# Altium schematic symbol library 11.Other.SchLib: 69 symbols
Pins are listed as number, name and electrical type; pins without a type are passive.

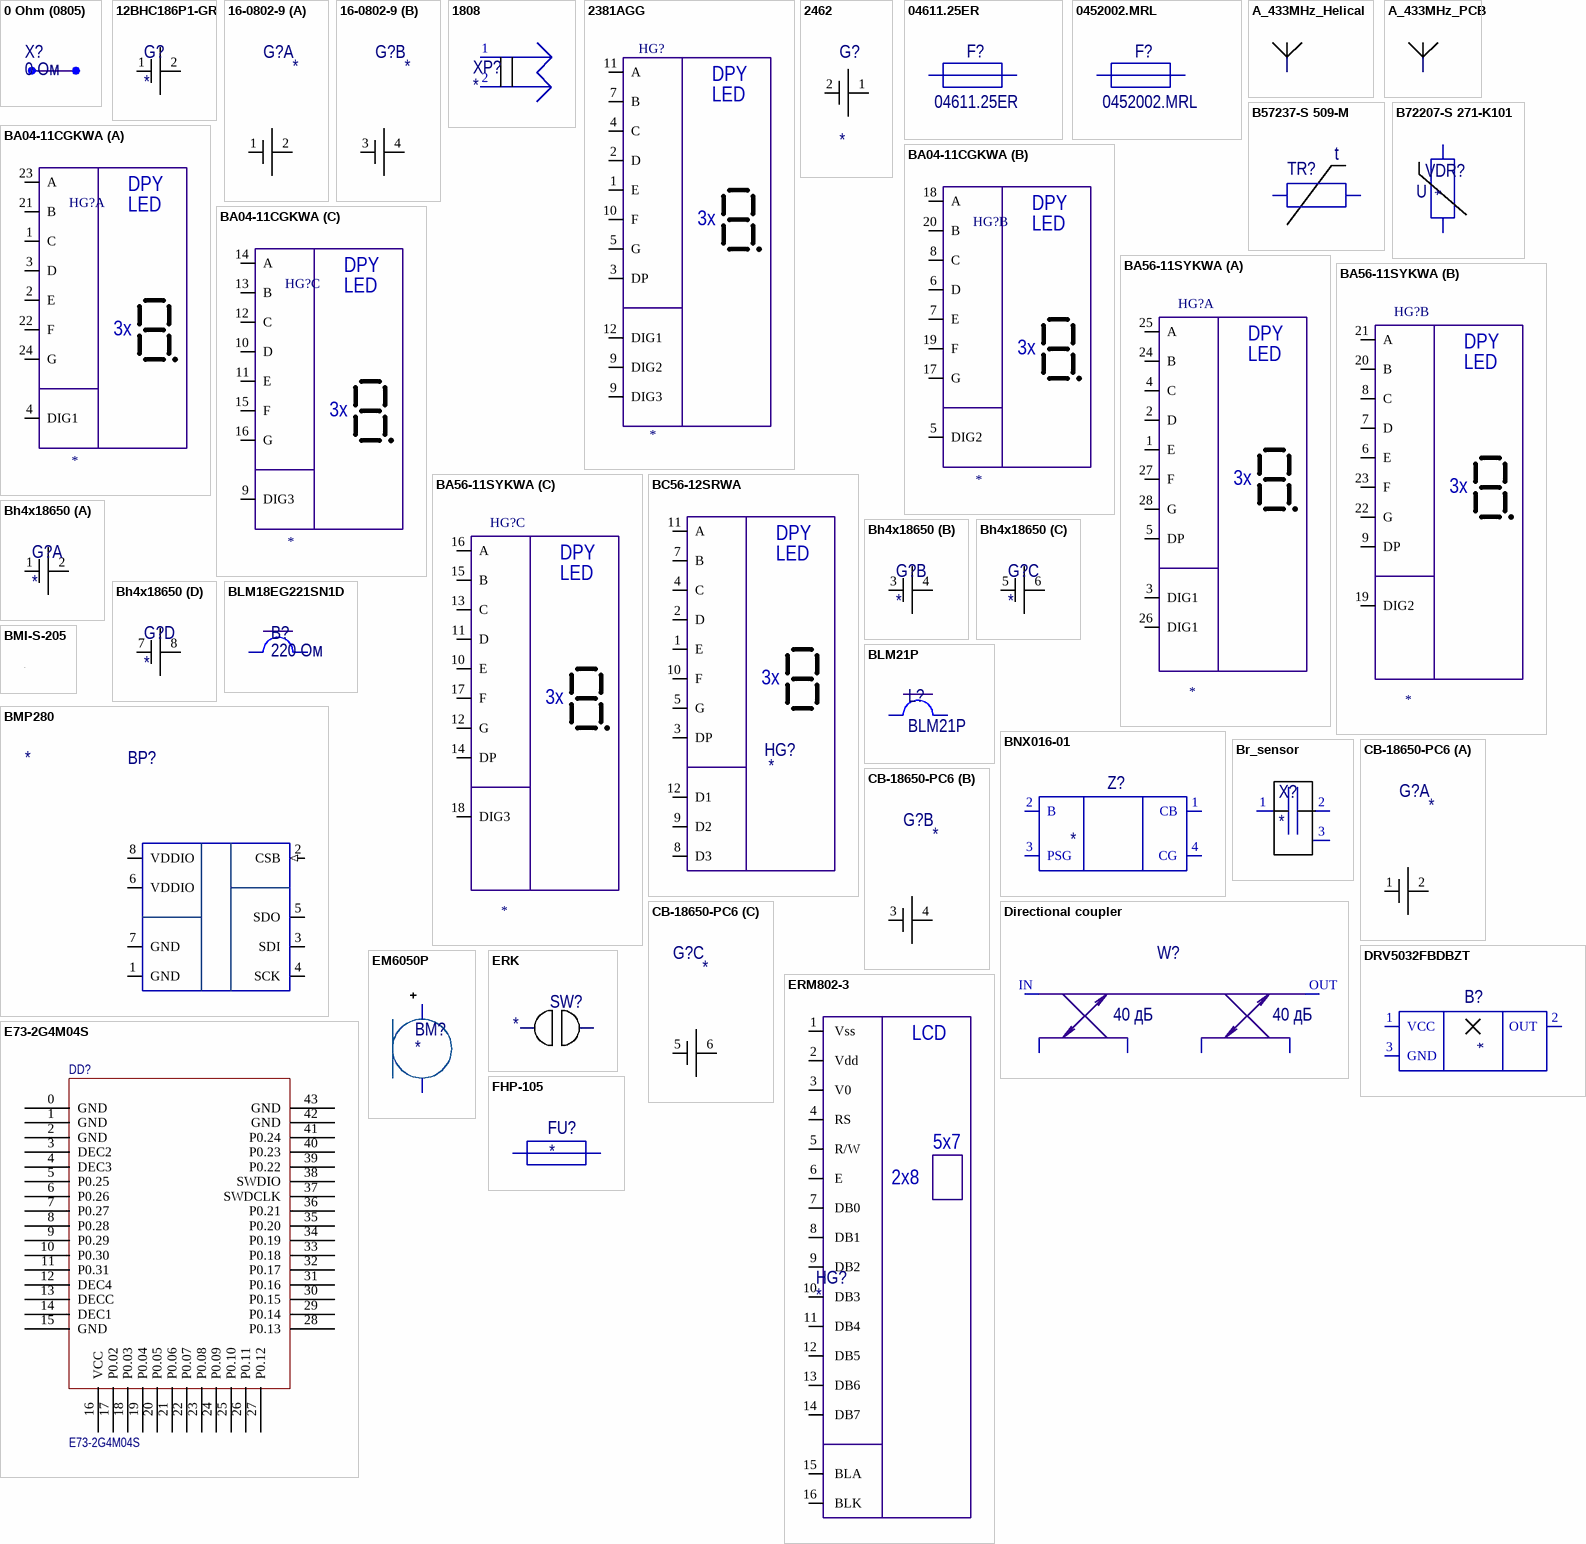
[diagram p0: symbols 0 Ohm (0805) to FHP-105]

## 0 Ohm (0805)
designator X?, comment 0 Ом
footprint R_0805 (Chip Resistor, 2-Leads, Body 2,10x1,30mm, IPC Medium Density)
pins: 1, 2

## 12BHC186P1-GR
designator G?
1х18650
footprint 12BHC186P1-GR
pins: 1, 2

## 16-0802-9
designator G?
Батарейный отсек 2х18650
footprint 16-0802-9
part A pins: 1, 2
part B pins: 3, 4

## 1808
designator XP?
1808 Fuse Holder
footprint 1808_Fuse_holder
pins: 1, 2

## 2381AGG
designator HG?
Индикатор зелёный 3-ч разрядный 7-и сегментный 7.11мм
footprint 2381AGG
pins: 1 E, 2 D, 3 DP, 4 C, 5 G, 7 B, 9 DIG2, 9 DIG3, 10 F, 11 A, 12 DIG1
text: DPY; LED; 3x

## 2462
designator G?
Батарейный отсек 2хАА на плату
footprint 2462 (Keystone)
pins: 1, 2

## 04611.25ER
designator F?
Fuse 1.25 А, 600 В, Предохранитель SMD
footprint 2410_FUSE
pins: 1, 2

## 0452002.MRL
designator F?
SMD Fuse 2A 125V 125V SMD,6.1x2.7 Littelfuse
footprint SMD_6.1x2.7
pins: 1, 2

## A_433MHz_Helical
designator A  (value not drawn)
Антенна
footprint ANT_433_Helical (Footprint not found)
pins: 1

## A_433MHz_PCB
designator A  (value not drawn)
Антенна
footprint ANT_433
pins: 1

## B57237-S 509-M
designator TR?
NTC термистор
footprint B57237
pins: 1, 2
text: t

## B72207-S 271-K101
designator VDR?
Варистор
footprint B72207-S 271-K101
pins: 1, 2
text: U

## BA04-11CGKWA
designator HG?
part A pins: 1 C, 2 E, 3 D, 4 DIG1, 21 B, 22 F, 23 A, 24 G
part B pins: 5 DIG2, 6 D, 7 E, 8 C, 17 G, 18 A, 19 F, 20 B
part C pins: 9 DIG3, 10 D, 11 E, 12 C, 13 B, 14 A, 15 F, 16 G
part A text: DPY; LED; 3x
part B text: DPY; LED; 3x
part C text: DPY; LED; 3x

## BA56-11SYKWA
designator HG?
Индикатор жёлтый 3-х разрядный. 14.22мм
footprint BA56-11SYKWA
part A pins: 1 E, 2 D, 3 DIG1, 4 C, 5 DP, 24 B, 25 A, 26 DIG1, 27 F, 28 G
part B pins: 6 E, 7 D, 8 C, 9 DP, 19 DIG2, 20 B, 21 A, 22 G, 23 F
part C pins: 10 E, 11 D, 12 G, 13 C, 14 DP, 15 B, 16 A, 17 F, 18 DIG3
part A text: DPY; LED; 3x
part B text: DPY; LED; 3x
part C text: DPY; LED; 3x

## BC56-12SRWA
designator HG?
Индикатор красный ОК, 14.2мм 3х7, 10.5мКд
footprint BC56
pins: 1 E, 2 D, 3 DP, 4 C, 5 G, 7 B, 8 D3, 9 D2, 10 F, 11 A, 12 D1
text: DPY; LED; 3x

## Bh4x18650
designator G?
Отсек для элементов питания
footprint CB-18650-PCB_4
part A pins: 1, 2
part B pins: 3, 4
part C pins: 5 6, 6
part D pins: 7, 8

## BLM18EG221SN1D
designator B?, comment 220 Ом
footprint BLM18
pins: 1, 2

## BLM21P
designator L?
footprint FB_0805 (Chip Resistor, 2-Leads, Body 2,10x1,30mm, IPC Medium Density)
pins: 1, 2

## BMI-S-205
designator *  (value not drawn)
экран
footprint BMI-S-205
pins: 0

## BMP280
designator BP?
Датчик давления
footprint BMP280
pins: 1 GND (power), 2 CSB (in), 3 SDI, 4 SCK, 5 SDO, 6 VDDIO (power), 7 GND (power), 8 VDDIO (power)

## BNX016-01
designator Z?
25В 15А 40дБ, LC фильтр
footprint BNX01
pins: 1 CB, 2 B, 3 PSG, 4 CG

## Br_sensor
designator X?
footprint Br_sensor
pins: 1, 2, 3

## CB-18650-PC6
designator G?
Батарейный отсек 2х18650
footprint CB-18650-PCB
part A pins: 1, 2
part B pins: 3, 4
part C pins: 5, 6

## Directional coupler
designator W?  (value not drawn)
pins: 1, 1, 2, 2, IN 1, OUT 2
text: 40 дБ

## DRV5032FBDBZT
designator B?
Ultra-Low-Power Digital-Switch Hall Effect Sensor
footprint SOT23 (SOT23, 3-Leads, Body 2,90x2,45mm, Pitch 0,95mm, IPC Medium Density)
pins: 1 VCC, 2 OUT, 3 GND

## E73-2G4M04S
designator DD?
nRF52832 2.4GHz Transceiver Wireless rf Module
footprint E73-2G4M04S (nRF52832 2.4GHz Transceiver Wireless RF module)
pins: 0 GND, 1 GND, 2 GND, 3 DEC2, 4 DEC3, 5 P0.25, 6 P0.26, 7 P0.27, 8 P0.28, 9 P0.29, 10 P0.30, 11 P0.31, 12 DEC4, 13 DECC, 14 DEC1, 15 GND, 16 VCC, 17 P0.02, 18 P0.03, 19 P0.04, 20 P0.05, 21 P0.06, 22 P0.07, 23 P0.08, 24 P0.09, 25 P0.10, 26 P0.11, 27 P0.12, 28 P0.13, 29 P0.14, 30 P0.15, 31 P0.16, 32 P0.17, 33 P0.18, 34 P0.19, 35 P0.20, 36 P0.21, 37 SWDCLK, 38 SWDIO, 39 P0.22, 40 P0.23, 41 P0.24, 42 GND, 43 GND

## EM6050P
designator BM?
footprint EM6050P
pins: 1, 2

## ERK
designator SW?
footprint ERK (SW?)
pins: 1, 2

## ERM802-3
designator HG?
footprint ERM802
pins: 1  Vss , 2  Vdd, 3  V0 , 4  RS , 5  R/W, 6  E, 7  DB0 , 8  DB1 , 9  DB2 , 10  DB3 , 11  DB4, 12  DB5, 13  DB6, 14  DB7, 15  BLA, 16  BLK
text: LCD; 5x7; 2x8

## FHP-105
designator FU?
footprint FHP-105
pins: 1, 2

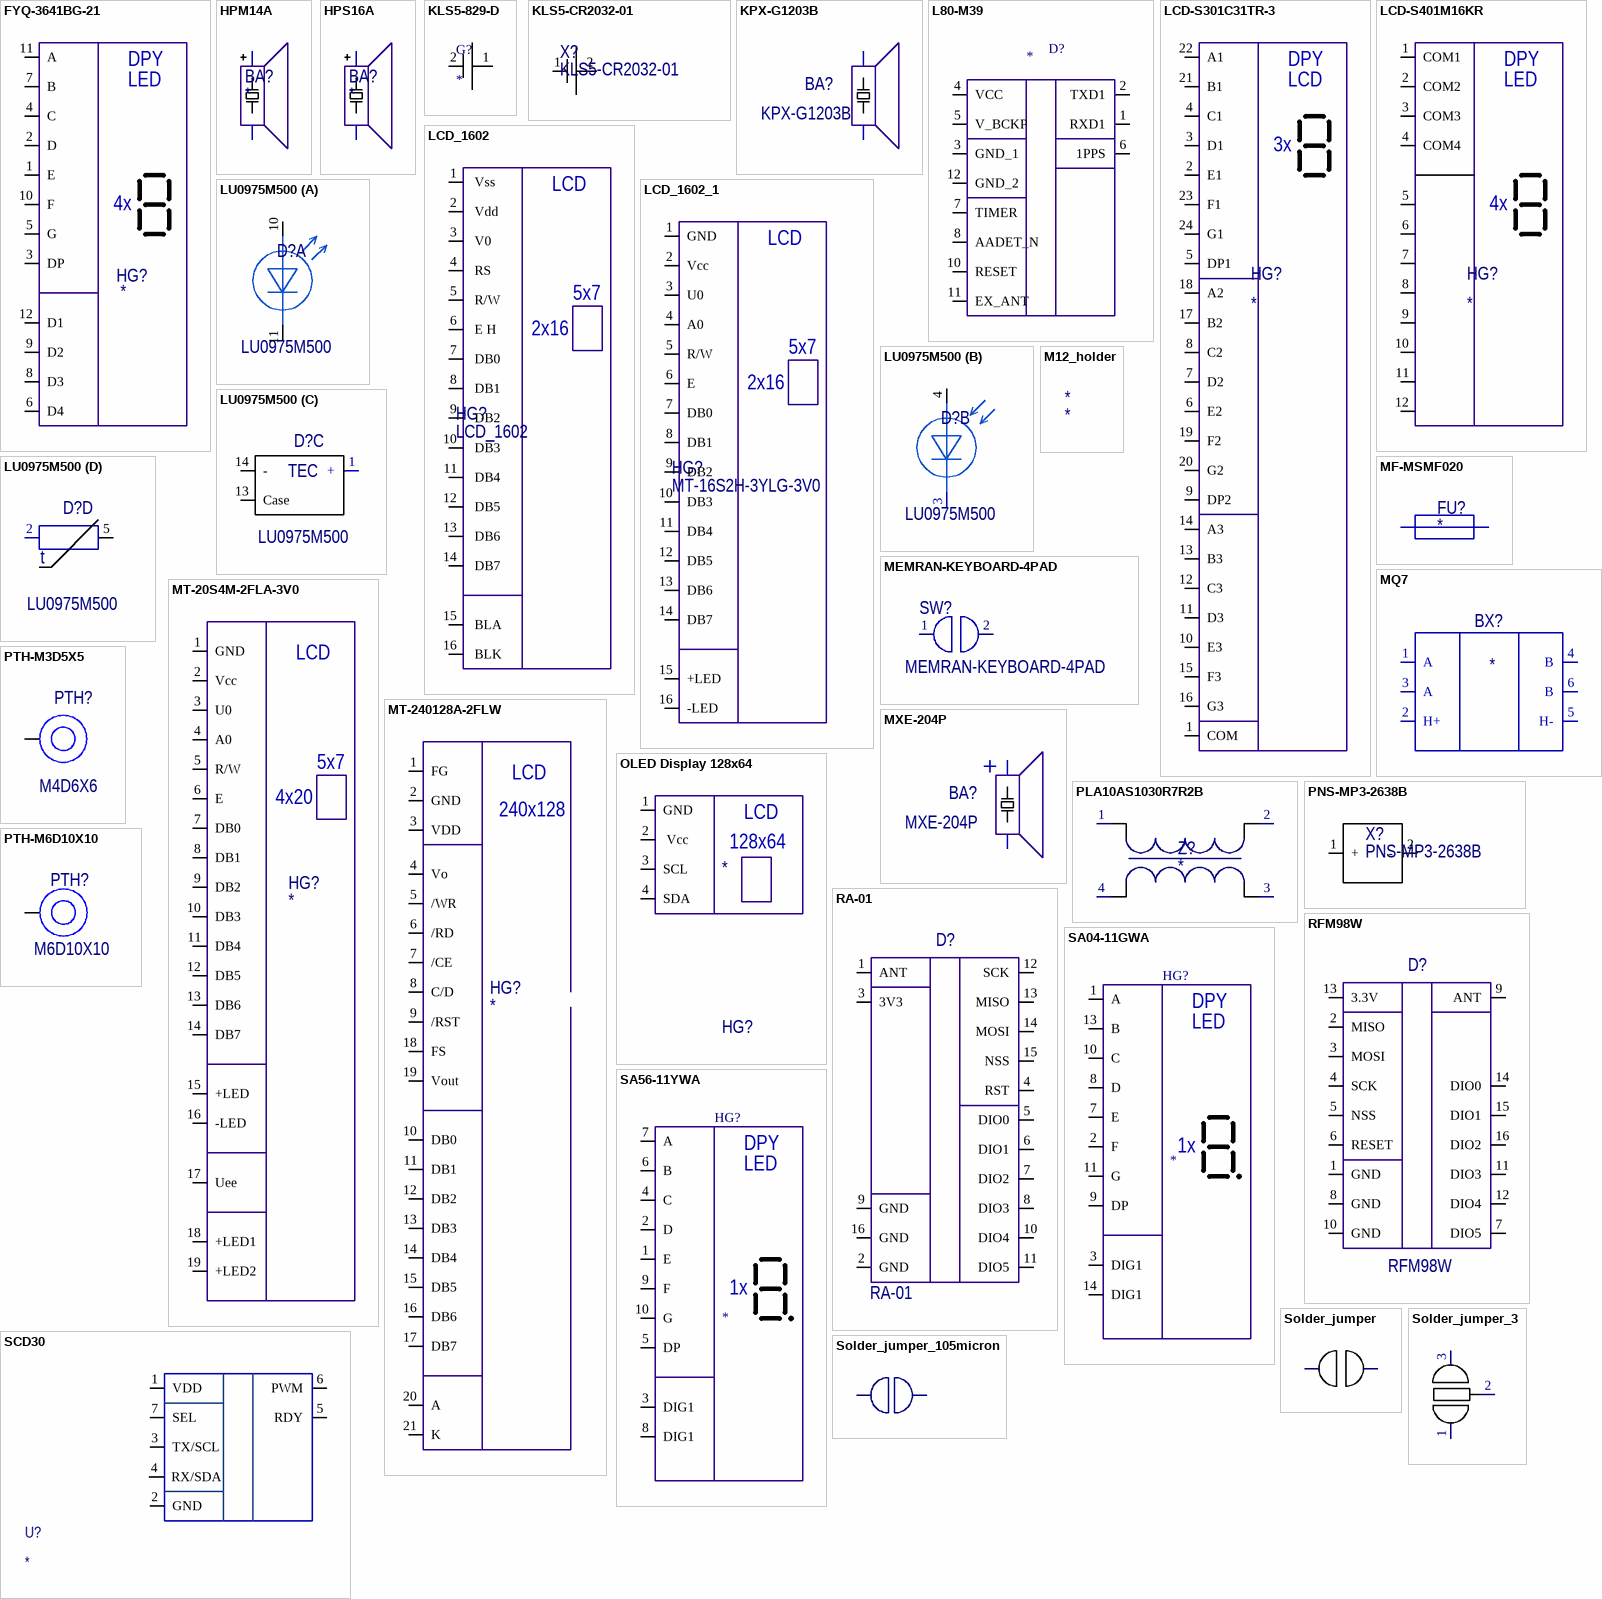
[diagram p1: symbols FYQ-3641BG-21 to Solder_jumper_105micron]

## FYQ-3641BG-21
designator HG?
4-х разр. светод. индикатор, зеленый, (ОА)
footprint FYQ-3641
pins: 1 E, 2 D, 3 DP, 4 C, 5 G, 6 D4, 7 B, 8 D3, 9 D2, 10 F, 11 A, 12 D1
text: DPY; LED; 4x

## HPM14A
designator BA?
HelpURL: https://static.chipdip.ru/lib/243/DOC000243438.pdf
footprint HPM14A
pins: 1, 2

## HPS16A
designator BA?
footprint HPS16A
pins: 1, 2

## KLS5-829-D
designator G?
Батарейный отсек 1xCR123A
footprint KLS5-829-D
pins: 1, 2

## KLS5-CR2032-01
designator X?
Батарейный отсек на 1xCR2032
footprint KLS5-CR2032-01
pins: 1, 2

## KPX-G1203B
designator BA?
HelpURL: https://static.chipdip.ru/lib/243/DOC000243438.pdf
footprint KPX-G1203B
pins: 1, 2

## L80-M39
designator D?
GPS; Manufacturer_Name: Quectel; Manufacturer_Part_Number: L80-M39; Datasheet Link: https://datasheet.datasheetarchive.com/originals/distributors/Datasheets_SAMA/54dad088769b805410b2916ae92dc7c0.pdf; Mouser Part Number: 277-L80-M39; Mouser Price/Stock: https://www.mouser.co.uk/ProductDetail/Quectel/L80-M39?qs=GedFDFLaBXEPqYfo45AE6g%3D%3D; Arrow Part Number: L80-M39; Arrow Price/Stock: https://www.arrow.com/en/products/l80-m39/quectel-wireless-solutions-co-ltd?region=nac
footprint L80-M39
pins: 1 RXD1, 2 TXD1, 3 GND_1, 4 VCC, 5 V_BCKP, 6 1PPS, 7 TIMER, 8 AADET_N, 10 RESET, 11 EX_ANT, 12 GND_2

## LCD-S301C31TR-3
designator HG?
footprint LCD-S301C31TR-3
pins: 1 COM, 2 E1, 3 D1, 4 C1, 5 DP1, 6 E2, 7 D2, 8 C2, 9 DP2, 10 E3, 11 D3, 12 C3, 13 B3, 14 A3, 15 F3, 16 G3, 17 B2, 18 A2, 19 F2, 20 G2, 21 B1, 22 A1, 23 F1, 24 G1
text: DPY; LCD; 3x

## LCD-S401M16KR
designator HG?
footprint LCD-S401M16KR
pins: 1 COM1, 2 COM2, 3 COM3, 4 COM4, 5, 6, 7, 8, 9, 10, 11, 12
text: DPY; LED; 4x

## LCD_1602
designator HG?
footprint 1602A-1
pins: 1  Vss , 2  Vdd, 3  V0 , 4  RS , 5  R/W, 6  E H, 7  DB0 , 8  DB1 , 9  DB2 , 10  DB3 , 11  DB4, 12  DB5, 13  DB6, 14  DB7, 15  BLA , 16  BLK
text: LCD; 5x7; 2x16

## LCD_1602_1
designator HG?, comment MT-16S2H-3YLG-3V0
footprint MT–16S2H
pins: 1 GND, 2 Vcc, 3 U0, 4 A0, 5 R/W, 6 E, 7 DB0 , 8 DB1 , 9 DB2 , 10 DB3 , 11 DB4, 12 DB5, 13 DB6, 14 DB7, 15 +LED, 16 -LED
text: LCD; 5x7; 2x16

## LU0975M500
designator D?
975 nm Single Mode Laser Module
footprint Butterfly_laser
part A pins: 1, 2, 10 LD_A, 11 LD_C
part B pins: 1, 2, 3 PD_A, 4 PD_C
part C pins: 1 +, 13 Case, 14 -
part D pins: 2 Temp, 5 Temp
part C text: TEC
part D text: t

## M12_holder
designator *
footprint M12_HOLDER

## MEMRAN-KEYBOARD-4PAD
designator SW?
Контакт мембранной клавиатуры
footprint MEMRAN-KEYBOARD-4PAD (пад мембранной клавиатуры)
pins: 1, 2

## MF-MSMF020
designator FU?
footprint FUSE 1812
pins: 1, 2

## MQ7
designator BX?
Датчик MQ7
footprint MQ7
pins: 1 A, 2 H+, 3 A, 4 B, 5 H-, 6 B

## MT-20S4M-2FLA-3V0
designator HG?
footprint MT-20S4M
pins: 1 GND, 2 Vcc, 3 U0, 4 A0, 5 R/W, 6 E, 7 DB0 , 8 DB1 , 9 DB2 , 10 DB3 , 11 DB4, 12 DB5, 13 DB6, 14 DB7, 15 +LED, 16 -LED, 17 Uee, 18 +LED1, 19 +LED2
text: LCD; 5x7; 4x20

## MT-240128A-2FLW
designator HG?
footprint MT-240128A
pins: 1 FG, 2 GND, 3 VDD, 4 Vo, 5 /WR, 6 /RD, 7 /CE, 8 C/D, 9 /RST, 10 DB0, 11 DB1, 12 DB2, 13 DB3, 14 DB4, 15 DB5, 16 DB6, 17 DB7, 18 FS, 19 Vout, 20 A, 21 K
text: LCD; 240x128

## MXE-204P
designator BA?
Speaker 84dB/1400(1500)+/ -200Hz/1.1V(RMS) d=29.8 8Ом 0.15-0.3W; HelpURL: https://static.chipdip.ru/lib/243/DOC000243438.pdf
footprint MXE-204P
pins: 1, 2

## OLED Display 128x64
designator HG?
footprint OLED Display 128x64
pins: 1 GND , 2  Vcc, 3 SCL, 4 SDA
text: LCD; 128x64

## PLA10AS1030R7R2B
designator Z?
Фильтр подавления ЭМП
footprint PLA10
pins: 1, 2, 3, 4

## PNS-MP3-2638B
designator X?
footprint PNS-MP3-2638B
pins: 1 +, 2 -

## PTH-M3D5X5
designator PTH?, comment M4D6X6
footprint PTH-M3D6X6
pins: 1

## PTH-M6D10X10
designator PTH?, comment M6D10X10
footprint PTH-M6D10X10
pins: 1

## RA-01
designator D?
LoRa modem
footprint RA-02
pins: 1 ANT, 2 GND, 3 3V3, 4 RST, 5 DIO0, 6 DIO1, 7 DIO2, 8 DIO3, 9 GND, 10 DIO4, 11 DIO5, 12 SCK, 13 MISO, 14 MOSI, 15 NSS, 16 GND

## RFM98W
designator D?
LoRa modem
footprint RFM98W
pins: 1 GND, 2 MISO, 3 MOSI, 4 SCK, 5 NSS, 6 RESET, 7 DIO5, 8 GND, 9 ANT, 10 GND, 11 DIO3, 12 DIO4, 13 3.3V, 14 DIO0, 15 DIO1, 16 DIO2

## SA04-11GWA
designator HG?
footprint SA04-11GWA
pins: 1 A, 2 F, 3 DIG1, 7 E, 8 D, 9 DP, 10 C, 11 G, 13 B, 14 DIG1
text: DPY; LED; 1x

## SA56-11YWA
designator HG?
footprint SA56-11YWA
pins: 1 E, 2 D, 3 DIG1, 4 C, 5 DP, 6 B, 7 A, 8 DIG1, 9 F, 10 G
text: DPY; LED; 1x

## SCD30
designator U?
Carbon Dioxide _CO2_ Sensor I²C, Modbus, PWM; MF: Sensirion AG; MP: SCD30; Package: None; Value: *; Availability: Unavailable; SnapEDA_Link: https://www.snapeda.com/parts/SCD30/Sensirion%20AG/view-part/2779194/?ref=snap; Price: None
footprint MODULE_SCD30 (Footprint not found)
pins: 1 VDD, 2 GND, 3 TX/SCL, 4 RX/SDA, 5 RDY, 6 PWM, 7 SEL

## Solder_jumper
designator X?  (value not drawn)
footprint Solder_jumper
pins: 1, 2

## Solder_jumper_3
designator X?  (value not drawn)
footprint Solder_jumper_3
pins: 1, 2, 3

## Solder_jumper_105micron
designator X?, comment Solder_jumper  (value not drawn)
footprint Solder_jumper_105micron
pins: 1, 2

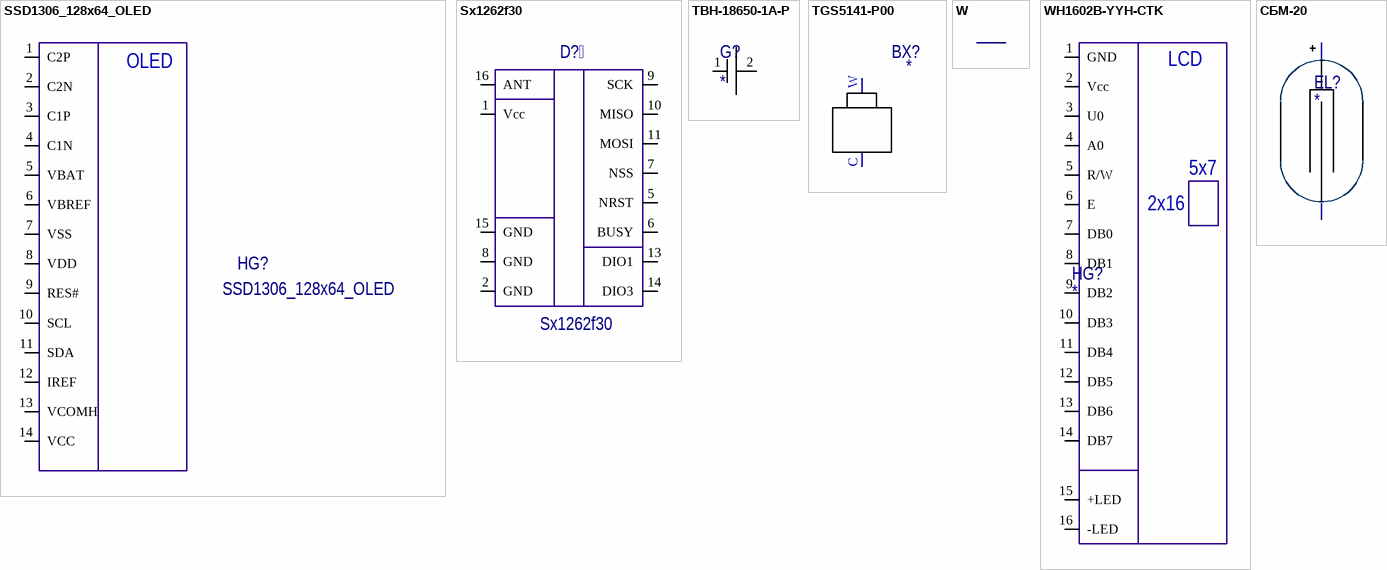
[diagram p2: symbols SSD1306_128х64_OLED to СБМ-20]

## SSD1306_128х64_OLED
designator HG?
footprint 14_pin_OLED
pins: 1 C2P, 2 C2N, 3 C1P, 4 C1N, 5 VBAT, 6 VBREF, 7 VSS, 8 VDD, 9 RES#, 10 SCL, 11 SDA, 12 IREF, 13 VCOMH, 14 VCC
text: OLED

## Sx1262f30
designator D?
LoRa modem
footprint Sx1262f30
pins: 1 Vcc, 2 GND, 5 NRST, 6 BUSY, 7 NSS, 8 GND, 9 SCK, 10 MISO, 11 MOSI, 13 DIO1, 14 DIO3, 15 GND, 16 ANT

## TBH-18650-1A-P
designator G?
1х18650
footprint TBH-18650-1A-P
pins: 1, 2

## TGS5141-P00
designator BX?
footprint TGS5141-P00 - mod
pins: C, W

## W
designator W  (value not drawn)
Соедениение земель
footprint w
pins: 1, 2

## WH1602B-YYH-CTK
designator HG?
footprint WH1602B
pins: 1 GND, 2 Vcc, 3 U0, 4 A0, 5 R/W, 6 E, 7 DB0 , 8 DB1 , 9 DB2 , 10 DB3 , 11 DB4, 12 DB5, 13 DB6, 14 DB7, 15 +LED, 16 -LED
text: LCD; 5x7; 2x16

## СБМ-20
designator EL?
footprint SBM-20
pins: 1, 2